# Altium footprint library Special.PcbLib: 27 footprints (part 2 of 2)
Each footprint in its own frame and in the unit in brackets; x right, y up, seen from the top. Pads: shape width x height; smd on the part's side, far side on the other; paste and mask are expansions set on the pad; w line width, h text height; cw(c..) or ccw(c..) is an arc to the next point about the centre after c.
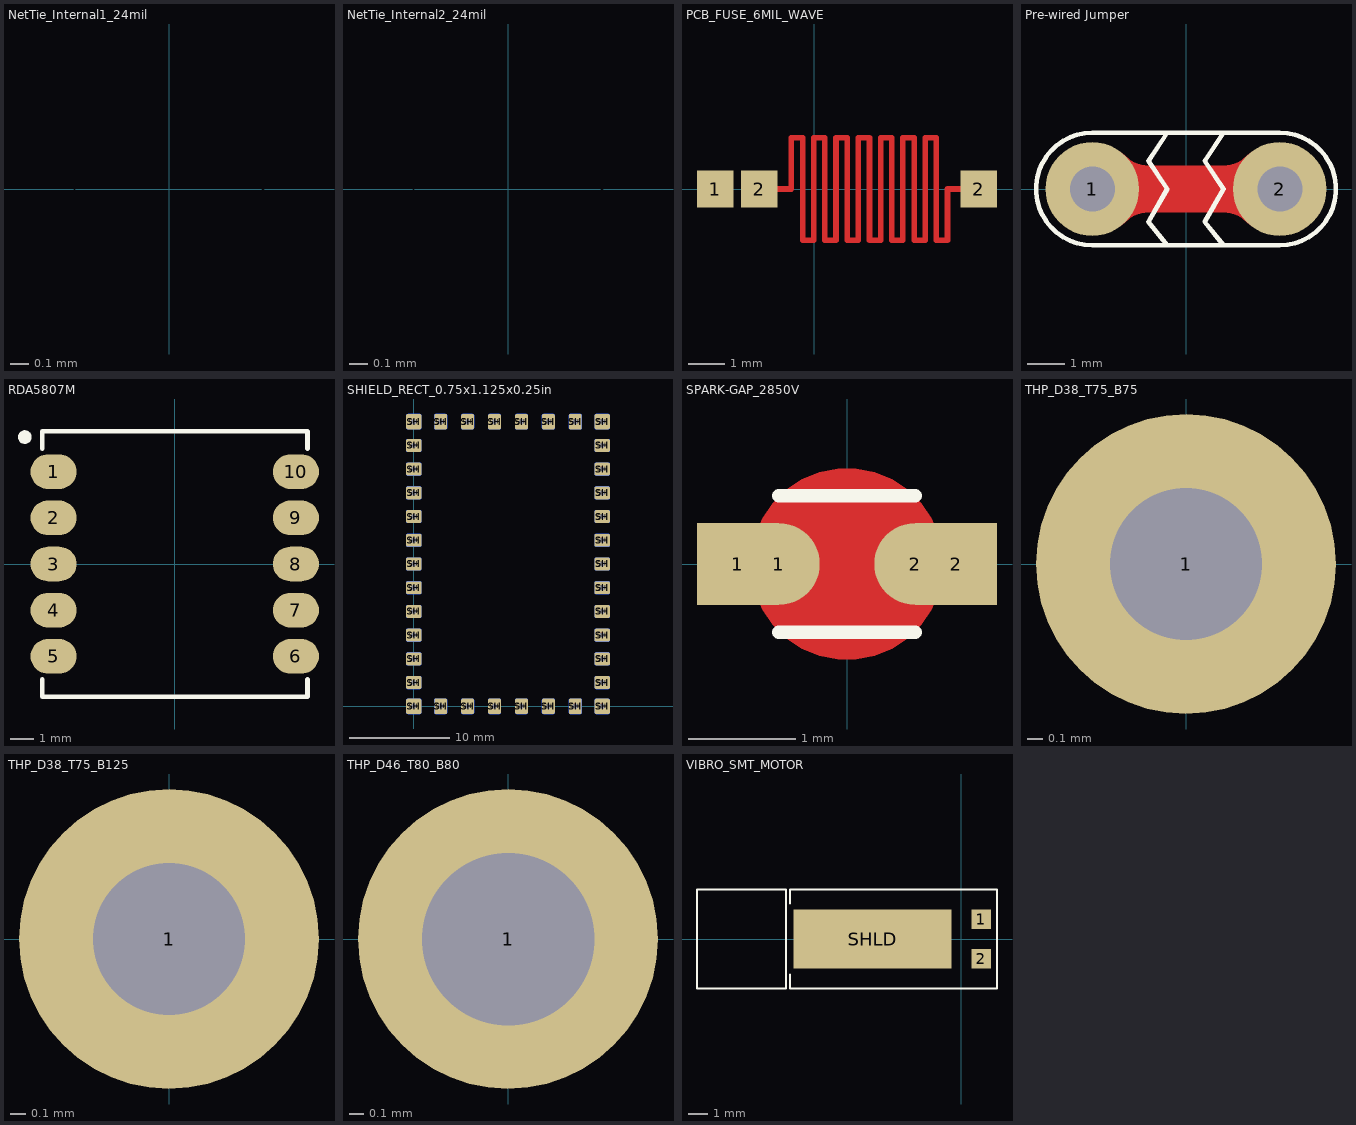
[diagram p1: the footprints below, top view; thin cyan lines are the x and y axes]

## NetTie_Internal1_24mil [mil]
pads (2):
  round 24 on Mid1: 1(-20,0) 2(20,0)
Mid-Layer 1:
  lines w24: -20,0 20,0

## NetTie_Internal2_24mil [mil]
pads (2):
  round 24 on Mid2: 1(-20,0) 2(20,0)
Mid-Layer 2:
  lines w24: -20,0 20,0

## PCB_FUSE_6MIL_WAVE [mm] "PCB Fuse, 6 mils wide, fuse time depends on substrate and current"
pads (3):
  rrect1% 1x1 smd paste-2: 1(-2.7,0) 2(-1.5,0) 2(4.5,0)
Top Layer:
  lines w0.152: -1,0 -0.619,0 -0.619,1.4 -0.314,1.4 -0.314,-1.4 -0.01,-1.4 -0.01,1.4 0.295,1.4 0.295,-1.4 0.6,-1.4 0.6,1.4 0.905,1.4 0.905,-1.4 1.21,-1.4 1.21,1.4 1.514,1.4 1.514,-1.4 1.819,-1.4 1.819,1.4 2.124,1.4 2.124,-1.4 2.429,-1.4 2.429,1.4 2.734,1.4 2.734,-1.4 3.038,-1.4 3.038,1.4 3.343,1.4 3.343,-1.4 3.648,-1.4 3.648,0 4,0
3D body: height 0.05, standoff 0, extent -3.2,-0.5 5,0.5

## Pre-wired Jumper [mil]
pads (2):
  round 100 hole 48: 1(-100,0) 2(100,0)
Top Layer:
  lines w50: -100,0 100,0 ; -82.32,-17.68 cw(c-39.64,-60.36) -39.64,0 cw(c-39.64,60.36) -82.32,17.68 ; 82.32,-17.68 ccw(c39.64,-60.36) 39.64,0 ccw(c39.64,60.36) 82.32,17.68
Top Overlay:
  lines w5: -20,-60 -40,-35 -20,0 -40,30 -20,60 ; 40,-60 20,-35 40,0 20,30 40,60 ; -100,-60 cw(c-100,0) -100,60 100,60 cw(c100,0) 100,-60 -100,-60

## RDA5807M [mm]
height 2
pads (10):
  oval 2x1.5 smd: 1(-5.25,4) 2(-5.25,2) 3(-5.25,0) 4(-5.25,-2) 5(-5.25,-4) 6(5.25,-4) 7(5.25,-2) 8(5.25,0) 9(5.25,2) 10(5.25,4)
Top Overlay:
  circle w0.1: c-6.5,5.5 r0.25
  rectangle: -6.7,5.3 -6.3,5.7
  lines w0.2: -5.75,-5 -5.75,-5.75 5.75,-5.75 5.75,-5 ; -5.75,5 -5.75,5.75 5.75,5.75 5.75,5
3D body "RDA5807M.STEP": height 2.15, standoff 0, extent -5.5,-5.5 5.5,5.5

## SHIELD_RECT_0.75x1.125x0.25in [mil] "Fotofab standard RF shield, 1.125\"x0.75\", 0.25\" tall"
height 250
pads (114):
  round 40 hole 20: SH(0,0) SH(0,92.5) SH(0,185) SH(0,277.5) SH(0,370) SH(0,462.5) SH(0,555) SH(0,647.5) SH(0,740) SH(0,832.5) SH(0,925) SH(0,1017.5) SH(0,1110) SH(105,0) SH(105,1110) SH(210,0) SH(210,1110) SH(315,0) SH(315,1110) SH(420,0) SH(420,1110) SH(525,0) SH(525,1110) SH(630,0) SH(630,1110) SH(735,0) SH(735,92.5) SH(735,185) SH(735,277.5) SH(735,370) SH(735,462.5) SH(735,555) SH(735,647.5) SH(735,740) SH(735,832.5) SH(735,925) SH(735,1017.5) SH(735,1110)
  rrect25% 60x60 smd: SH(0,0) SH(0,1110) SH(735,0) SH(735,1110)
  rrect25% 60x60 smd far side: SH(0,0) SH(0,1110) SH(735,0) SH(735,1110)
  rrect25% 60x50 smd: SH(0,92.5) SH(0,185) SH(0,277.5) SH(0,370) SH(0,462.5) SH(0,555) SH(0,647.5) SH(0,740) SH(0,832.5) SH(0,925) SH(0,1017.5) SH(735,92.5) SH(735,185) SH(735,277.5) SH(735,370) SH(735,462.5) SH(735,555) SH(735,647.5) SH(735,740) SH(735,832.5) SH(735,925) SH(735,1017.5)
  rrect25% 60x50 smd far side: SH(0,92.5) SH(0,185) SH(0,277.5) SH(0,370) SH(0,462.5) SH(0,555) SH(0,647.5) SH(0,740) SH(0,832.5) SH(0,925) SH(0,1017.5) SH(735,92.5) SH(735,185) SH(735,277.5) SH(735,370) SH(735,462.5) SH(735,555) SH(735,647.5) SH(735,740) SH(735,832.5) SH(735,925) SH(735,1017.5)
  rrect25% 50x60 smd: SH(105,0) SH(105,1110) SH(210,0) SH(210,1110) SH(315,0) SH(315,1110) SH(420,0) SH(420,1110) SH(525,0) SH(525,1110) SH(630,0) SH(630,1110)
  rrect25% 50x60 smd far side: SH(105,0) SH(105,1110) SH(210,0) SH(210,1110) SH(315,0) SH(315,1110) SH(420,0) SH(420,1110) SH(525,0) SH(525,1110) SH(630,0) SH(630,1110)
3D body "Shield box 0.75x1.125x0.25 inch.stp": height 250, standoff 0, extent -7.49,-7.49 742.51,1117.5

## SPARK-GAP_2850V [mil] "Spark gap, voltage approx 2850 per (3000 pd + 1350)"
pads (4):
  rrect1% 30x30 smd paste-20 mask-20: 1(-40,0) 2(40,0)
  round 30 smd paste-20 mask+5: 1(-25,0) 2(25,0)
Top Layer:
  pour cut-out: 0,35 3.45,35 10.21,33.65 16.58,31.02 22.31,27.19 27.19,22.31 31.02,16.58 33.65,10.21 35,3.45 35,0 35,-3.45 33.65,-10.21 31.02,-16.58 27.19,-22.31 22.31,-27.19 16.58,-31.02 10.21,-33.65 3.45,-35 0,-35 -3.45,-35 -10.21,-33.65 -16.58,-31.02 -22.31,-27.19 -27.19,-22.31 -31.02,-16.58 -33.65,-10.21 -35,-3.45 -35,0 -35,3.45 -33.65,10.21 -31.02,16.58 -27.19,22.31 -22.31,27.19 -16.58,31.02 -10.21,33.65 -3.45,35
Top Overlay:
  lines w5: -25,-25 25,-25 ; -25,25 25,25
Top Solder:
  rectangle: -25,-20 25,20

## THP_D38_T75_B75 [mil] "Thru-Hole Pad with 75mil top and 75mil bottom annular rings"
height 100
pads (1):
  round 75 hole 38: 1(0,0)

## THP_D38_T75_B125 [mil] "Thru-Hole Pad with 75mil top and 125mil bottom annular rings"
pads (1):
  round 75 / inner round 75 / far side round 125 hole 38: 1(0,0)

## THP_D46_T80_B80 [mil]
height 700.79
pads (1):
  round 80 hole 46: 1(0,0)

## VIBRO_SMT_MOTOR [mm]
pads (3):
  rect 1x1 smd: 1(1,1) 2(1,-1)
  rect 8x3 smd: SHLD(-4.5,0)
Top Overlay:
  lines w0.1: -8.7,-1.8 -8.7,-2.5 1.8,-2.5 1.8,2.5 -8.7,2.5 -8.7,1.8 ; -13.4,-2.5 -13.4,2.5 -8.9,2.5 -8.9,-2.5 -13.4,-2.5
3D body: height 5, standoff 0, extent -8.7,-2.5 1.8,2.5
3D body: height 5, standoff 0, extent -13.4,-2.5 -8.9,2.5